# Altium footprint library LEDs.PcbLib: 12 footprints
Each footprint in its own frame and in the unit in brackets; x right, y up, seen from the top. Pads: shape width x height; smd on the part's side, far side on the other; paste and mask are expansions set on the pad; w line width, h text height; cw(c..) or ccw(c..) is an arc to the next point about the centre after c.
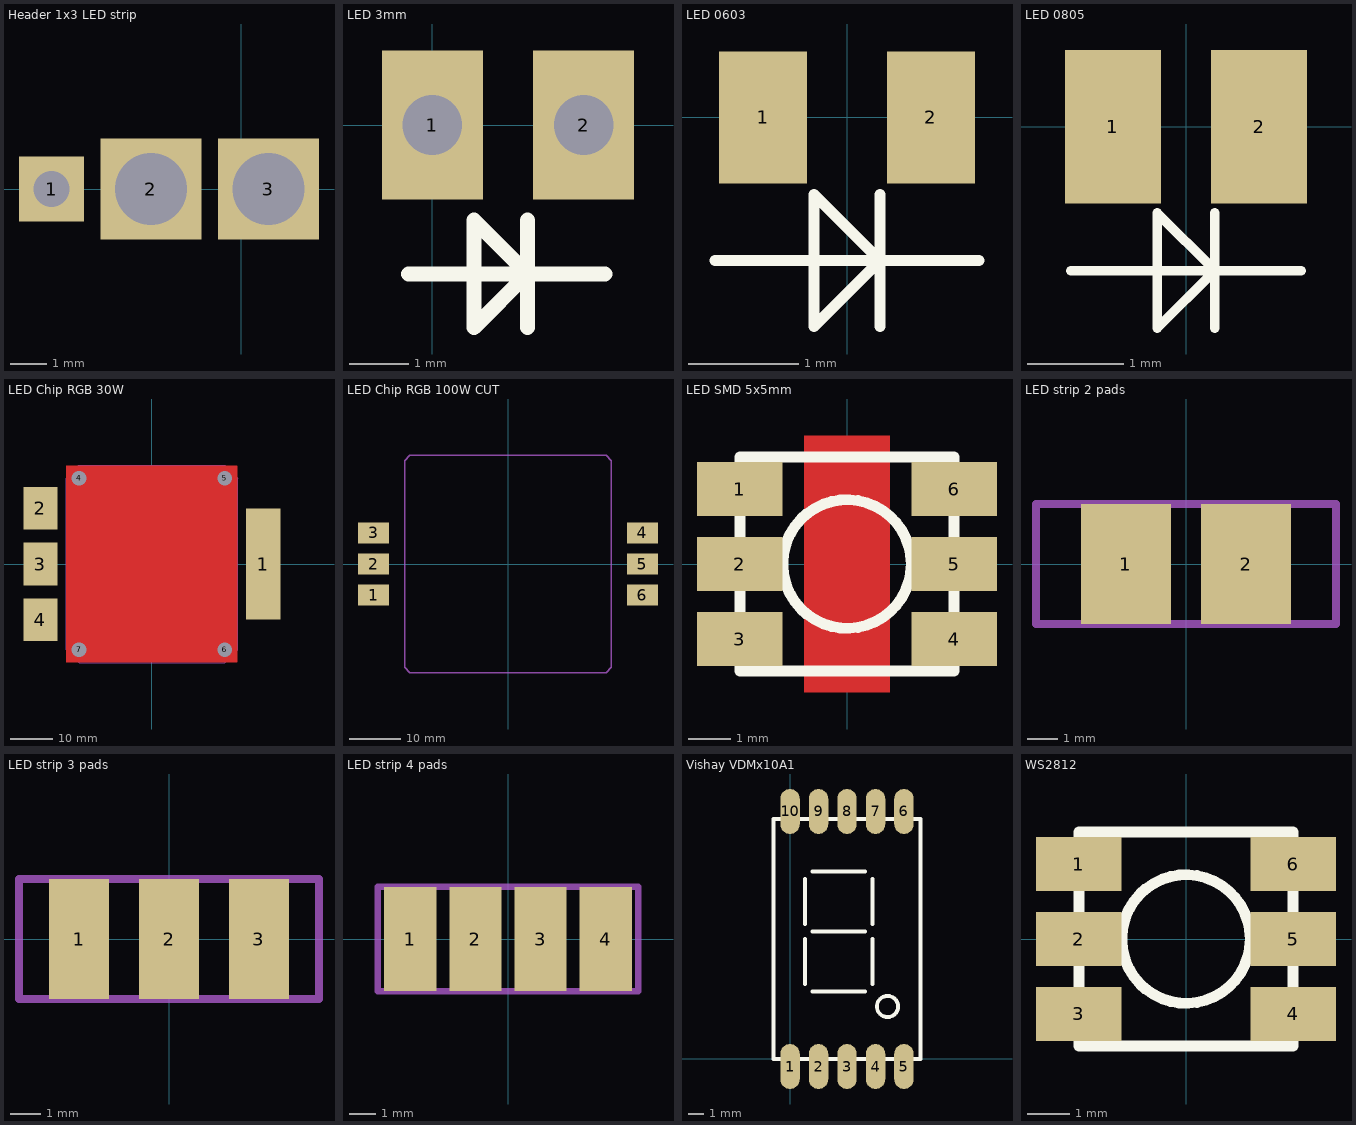
[diagram p0: the footprints below, top view; thin cyan lines are the x and y axes]

## Header 1x3 LED strip [mm]
pads (3):
  rect 1.8x1.8 hole 1: 1(-5.25,0)
  rect 2.8x2.8 hole 2: 2(-2.5,0) 3(0.75,0)

## LED 3mm [mm] "2.54mm"
pads (2):
  rect 1.7x2.5 hole 1: 1(0,0) 2(2.54,0)
Top Overlay:
  lines w0.254: -0.4,-2.5 2.9,-2.5 ; 1.6,-3.4 1.6,-1.6 ; 0.7,-3.4 0.7,-1.6 1.6,-2.5 0.7,-3.4
3D body: height 18.6, standoff -17, extent -1.709,-3.048 3.741,2.851

## LED 0603 [mm]
pads (2):
  rect 0.8x1.2 smd: 1(-0.762,0) 2(0.762,0)
Top Overlay:
  lines w0.1: -1.2,-1.3 1.2,-1.3 ; 0.3,-1.9 0.3,-0.7 ; -0.3,-1.9 0.3,-1.3 -0.3,-0.7 -0.3,-1.9
3D body: height 0.75, standoff 0, extent -0.811,-0.45 0.889,0.45

## LED 0805 [mm]
pads (2):
  rect 1x1.6 smd: 1(-0.762,0) 2(0.762,0)
Top Overlay:
  lines w0.1: -1.2,-1.5 1.2,-1.5 ; 0.3,-2.1 0.3,-0.9 ; -0.3,-2.1 -0.3,-0.9 0.3,-1.5 -0.3,-2.1
3D body: height 1.1, standoff 0, extent -1.039,-0.675 1.061,0.675

## LED Chip RGB 30W [mm]
pads (8):
  rect 8x26 smd: 1(26,0)
  rect 8x10 smd: 2(-26,13) 3(-26,0) 4(-26,-13)
  round 2.3 hole 3.4: 4(-17,20) 5(17,20) 6(17,-20) 7(-17,-20)
Top Layer:
  rectangle: -20,-23 20,23
Mechanical 1:
  lines w0.254: -20,-20 -20,20 -17,23 17,23 20,20 20,-20 17,-23 -17,-23 -20,-20 ; -20,-20 -20,-20

## LED Chip RGB 100W CUT [mm]
pads (6):
  rect 6x4 smd: 1(-26,-6) 2(-26,0) 3(-26,6) 4(26,6) 5(26,0) 6(26,-6)
Mechanical 1:
  lines w0.254: -20,-20 -20,-20 ; -20,-20 -20,20 -19,21 19,21 20,20 20,-20 19,-21 -19,-21 -20,-20

## LED SMD 5x5mm [mm]
pads (6):
  rect 2x1.25 smd: 1(-2.5,1.75) 2(-2.5,0) 3(-2.5,-1.75) 4(2.5,-1.75) 5(2.5,0) 6(2.5,1.75)
Top Layer:
  rectangle: -1,-3 1,3
Top Overlay:
  circle w0.254: c0,0 r1.5
  lines w0.254: -2.5,-2.5 -2.5,2.5 2.5,2.5 2.5,-2.5 -2.5,-2.5

## LED strip 2 pads [mm]
pads (2):
  rect 3x4 smd: 1(-2,0) 2(2,0)
Mechanical 1:
  lines w0.254: -5,-2 -5,2 5,2 5,-2 -5,-2

## LED strip 3 pads [mm]
pads (3):
  rect 2x4 smd: 1(-3,0) 2(0,0) 3(3,0)
Mechanical 1:
  lines w0.254: -5,-2 5,-2 5,2 -5,2 -5,-2

## LED strip 4 pads [mm]
pads (4):
  rect 2x4 smd: 1(-3.75,0) 2(-1.25,0) 3(1.25,0) 4(3.75,0)
Mechanical 1:
  lines w0.254: -5,-2 -5,2 5,2 5,-2 -5,-2

## Vishay VDMx10A1 [mm]
pads (10):
  oval 1.3x3 smd mask+0: 1(0,-0.5) 2(1.9,-0.5) 3(3.8,-0.5) 4(5.7,-0.5) 5(7.6,-0.5) 6(7.6,16.5) 7(5.7,16.5) 8(3.8,16.5) 9(1.9,16.5) 10(0,16.5)
Top Overlay:
  circle w0.254: c6.5,3.5 r0.707
  lines w0.254: 1,5 1,8 ; 1,9 1,12 ; 1.5,4.5 5,4.5 ; 1.5,8.5 5,8.5 ; 1.5,12.5 5,12.5 ; 5.5,5 5.5,8 ; 5.5,9 5.5,12 ; -1.1,0 8.7,0 8.7,16 -1.1,16 -1.1,0

## WS2812 [mm]
height 3
pads (6):
  rect 2x1.25 smd: 1(-2.5,1.75) 2(-2.5,0) 3(-2.5,-1.75) 4(2.5,-1.75) 5(2.5,0) 6(2.5,1.75)
Top Overlay:
  circle w0.254: c0,0 r1.5
  lines w0.254: -2.5,-2.5 -2.5,2.5 2.5,2.5 2.5,-2.5 -2.5,-2.5
3D body: height 1.75, standoff 0, extent -2.7,-2.54 2.7,2.46